# EAGLE library part LT3572 (library MakBit)
Dual Full-Bridge Piezo Driver 2.7V to 10V Input Voltage Range 900mA Boost Converter Programmable Switching Frequency from 500kHz to 2.25MHz Soft-Start Separate Enable for each piezo driver and boost converter 4mm × 4mm 20-Pin QFN Package
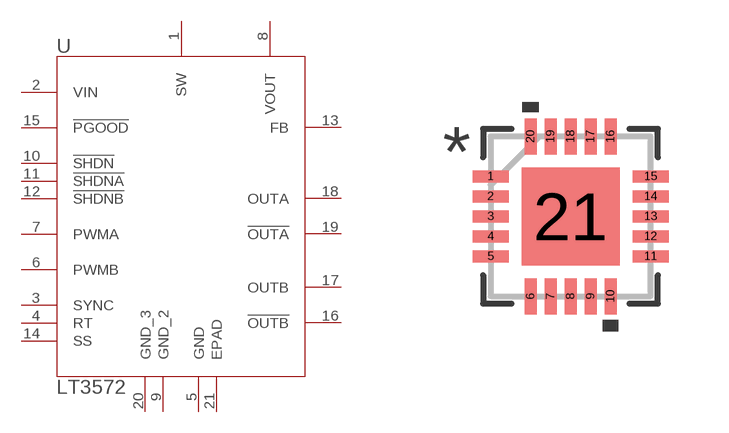
[diagram p23: symbol with the pads of QFN-20-(LT3572); footprint QFN-20-(LT3572)]

Designator prefix U

## LT3572  [QFN-20-(LT3572)]
1  SW  pas
2  VIN  in
3  SYNC  pas
4  RT  pas
5  GND  pwr
6  PWMB  in
7  PWMA  in
8  VOUT  out
9  GND_2  pwr
10  !SHDN  pas
11  !SHDNA  pas
12  !SHDNB  pas
13  FB  out
14  SS  pas
15  !PGOOD  out
16  !OUTB  out
17  OUTB  out
18  OUTA  out
19  !OUTA  out
20  GND_3  pwr
21  EPAD  pas

## Footprint QFN-20-(LT3572) (pad centres in mm)
smd 0.9 x 0.3: 1 -2,1; 2 -2,0.5; 3 -2,0; 4 -2,-0.5; 5 -2,-1; 11 2,-1; 12 2,-0.5; 13 2,0; 14 2,0.5; 15 2,1
smd 0.3 x 0.9: 6 -1,-2; 7 -0.5,-2; 8 0,-2; 9 0.5,-2; 10 1,-2; 16 1,2; 17 0.5,2; 18 0,2; 19 -0.5,2; 20 -1,2
smd 2.45 x 2.45: 21 0,0